# EAGLE library part LSM303 (library sonder_b)
LSM303DLH ? 3-axis accelerometer and 3-axis magnetometer ? Digital supply voltage IOs: 1.8 V ? Power-down mode ? ±1.3 to ±8,1 gauss magnetic field full-scale ? ±2 g/±4 g/±8 g dynamically selectable fullscale ? 16-bit data out ? I2C serial interface http://www.st.com/stonline/products/literature/ds/16941/lsm303dlh.pdf
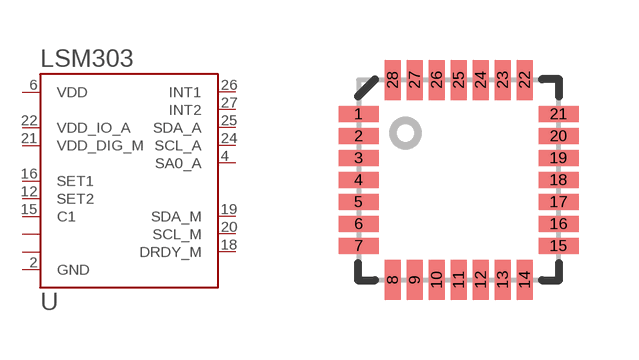
[diagram p2: symbol with the pads of LGA28; footprint LGA28]

Designator prefix -

## LSM303LGA28_LONG  [LGA28]
1  RESV_GND$1
2  GND
3  RESV_GND$2
4  SA0_A
5  RESV_VIO
6  VDD
7  RESV_VDD
8  NC$1
9  NC$2
10  RESV$1
11  RESV$2
12  SET2
13  RESV$3
14  RESV$4
15  C1
16  SET1
17  RESV_GND$3
18  DRDY_M
19  SDA_M
20  SCL_M
21  VDD_DIG_M
22  VDD_IO_A
23  RESV_VDDIOA
24  SCL_A
25  SDA_A
26  INT1
27  INT2
28  RESV_GND$4

## Footprint LGA28 (pad centres in mm)
Land Grid Array Packag 28Pins 5x5mm
smd 1 x 0.4: 1 -2.5,1.65; 2 -2.5,1.1; 3 -2.5,0.55; 4 -2.5,0; 5 -2.5,-0.55; 6 -2.5,-1.1; 7 -2.5,-1.65; 15 2.5,-1.65; 16 2.5,-1.1; 17 2.5,-0.55; 18 2.5,0; 19 2.5,0.55; 20 2.5,1.1; 21 2.5,1.65
smd 0.4 x 1: 8 -1.65,-2.5; 9 -1.1,-2.5; 10 -0.55,-2.5; 11 0,-2.5; 12 0.55,-2.5; 13 1.1,-2.5; 14 1.65,-2.5; 22 1.65,2.5; 23 1.1,2.5; 24 0.55,2.5; 25 0,2.5; 26 -0.55,2.5; 27 -1.1,2.5; 28 -1.65,2.5